# Altium schematic symbol library SW_SPDT_1C_2NC_3NO.Schlib: 1 symbol
Pins are listed as number, name and electrical type; pins without a type are passive.

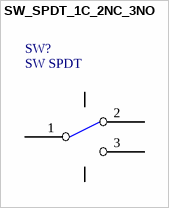
[diagram p0: symbol SW_SPDT_1C_2NC_3NO]

## SW_SPDT_1C_2NC_3NO
designator SW?, comment SW SPDT
pins: 1, 2, 3, 4, 5